# Altium footprint library PCB - LEADED - SOP - ISSI TSOP-44 400MIL TSOP-2.PcbLib: 1 footprints
Each footprint in its own frame and in the unit in brackets; x right, y up, seen from the top. Pads: shape width x height; smd on the part's side, far side on the other; paste and mask are expansions set on the pad; w line width, h text height; cw(c..) or ccw(c..) is an arc to the next point about the centre after c.
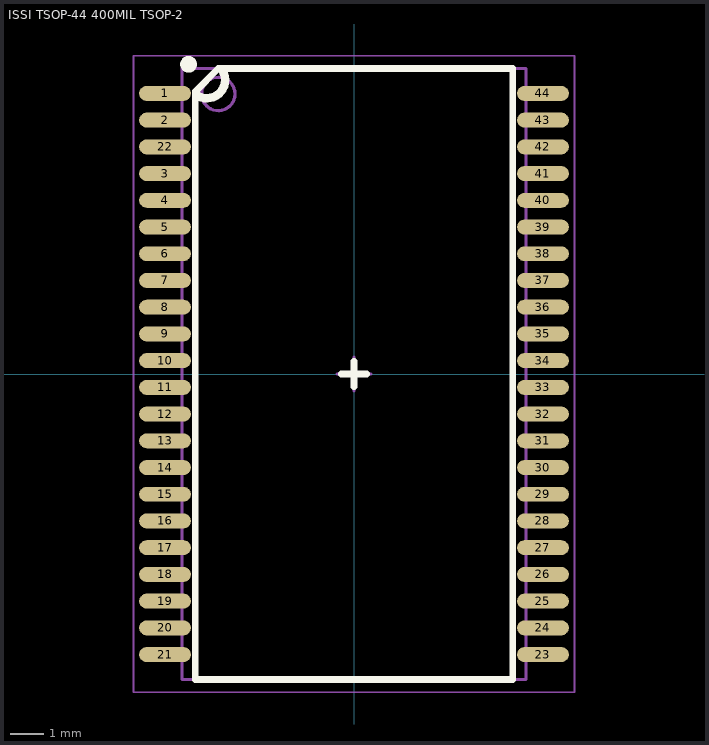
[diagram p0: the footprint, top view; thin cyan lines are the x and y axes]

## ISSI TSOP-44 400MIL TSOP-2 [mm] "TSOP, 54-Leads, Body 18.31x10.03mm, Pitch 0.80mm, IPC Medium Density"
height 1.2
pads (44):
  oval 1.551x0.448 smd: 1(-5.656,8.4) 2(-5.656,7.6) 3(-5.656,6) 4(-5.656,5.2) 5(-5.656,4.4) 6(-5.656,3.6) 7(-5.656,2.8) 8(-5.656,2) 9(-5.656,1.2) 10(-5.656,0.4) 11(-5.656,-0.4) 12(-5.656,-1.2) 13(-5.656,-2) 14(-5.656,-2.8) 15(-5.656,-3.6) 16(-5.656,-4.4) 17(-5.656,-5.2) 18(-5.656,-6) 19(-5.656,-6.8) 20(-5.656,-7.6) 21(-5.656,-8.4) 22(-5.656,6.8) 23(5.656,-8.4) 24(5.656,-7.6) 25(5.656,-6.8) 26(5.656,-6) 27(5.656,-5.2) 28(5.656,-4.4) 29(5.656,-3.6) 30(5.656,-2.8) 31(5.656,-2) 32(5.656,-1.2) 33(5.656,-0.4) 34(5.656,0.4) 35(5.656,1.2) 36(5.656,2) 37(5.656,2.8) 38(5.656,3.6) 39(5.656,4.4) 40(5.656,5.2) 41(5.656,6) 42(5.656,6.8) 43(5.656,7.6) 44(5.656,8.4)
Top Overlay:
  circle w0.25: c-4.953,9.271 r0.125
  lines w0.2: -4.75,-9.144 4.75,-9.144 4.75,9.144 -4.064,9.144 -4.75,8.458 -4.75,-9.144
  lines w0.203: -0.381,0 0.381,0 ; 0,-0.381 0,0.381
  lines w0.254: -4.665,8.318 ccw(c-4.407,8.801) -3.932,9.074
Mechanical 13:
  circle w0.1: c-4.064,8.382 r0.5
  lines w0.1: -5.15,-9.144 -5.15,9.144 5.15,9.144 5.15,-9.144 -5.15,-9.144
Mechanical 15:
  lines w0.05: -6.6,-9.525 -6.6,9.525 6.6,9.525 6.6,-9.525 -6.6,-9.525
  lines w0.1: -0.5,0 0.5,0 ; 0,-0.5 0,0.5
3D body: height 1.2, standoff 0.05, extent -5.15,-9.144 5.15,9.144